# EAGLE library part ADXL335 (library CC2530_PCB_TL)
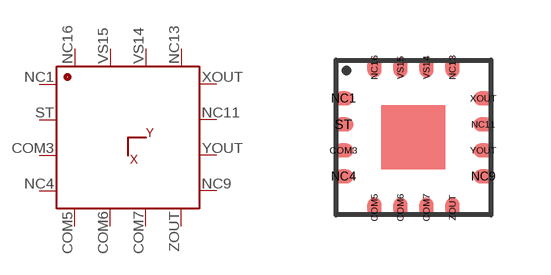
[diagram p18: symbol with the pads of ADXL335; footprint ADXL335]

Designator prefix -

## ADXL335  [ADXL335]
COM3  COM3  pwr
COM5  COM5  pwr
COM6  COM6  pwr
COM7  COM7  pwr
NC1  NC1  nc
NC4  NC4  nc
NC9  NC9  nc
NC11  NC11  nc
NC13  NC13  nc
NC16  NC16  nc
ST  ST  pwr
VS14  VS14  pwr
VS15  VS15  pwr
XOUT  XOUT  out
YOUT  YOUT  out
ZOUT  ZOUT  out

## Footprint ADXL335 (pad centres in mm)
smd 0.5 x 0.35: COM3 -1.75,-0.325; NC1 -1.75,0.975; NC4 -1.75,-0.975; NC9 1.75,-0.975; NC11 1.75,0.325; ST -1.75,0.325; XOUT 1.75,0.975; YOUT 1.75,-0.325
smd 0.35 x 0.5: COM5 -0.975,-1.75; COM6 -0.325,-1.75; COM7 0.325,-1.75; NC13 0.975,1.75; NC16 -0.975,1.75; VS14 0.325,1.75; VS15 -0.325,1.75; ZOUT 0.975,-1.75